# Altium schematic symbol library BatteryHolder.SchLib: 1 symbol
Pins are listed as number, name and electrical type; pins without a type are passive.

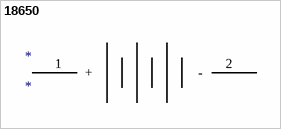
[diagram p0: symbol 18650]

## 18650
designator *
footprint 18650 (18650 battery holder)
pins: 1 +, 2 -